# Altium schematic symbol library ULN200x.SchLib: 1 symbol
Pins are listed as number, name and electrical type; pins without a type are passive.

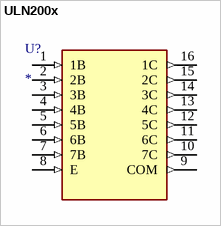
[diagram p0: symbol ULN200x]

## ULN200x
designator U?
50-V, 7-ch darlington transistor array, -20C to 70C; MP: ULN2003AD; MF: Texas Instruments; Price: None; Availability: In Stock; Package: SOIC-16 Texas Instruments; Value: *; SnapEDA_Link: https://www.snapeda.com/parts/ULN2003AD/Texas+Instruments/view-part/?ref=snap; Purchase-URL: https://pricing.snapeda.com/search/part/ULN2003AD/?ref=eda; Check_prices: https://www.snapeda.com/parts/ULN2003AD/Texas+Instruments/view-part/?ref=eda
footprint SOIC127P600X175-16N
pins: 1 1B (in), 2 2B (in), 3 3B (in), 4 4B (in), 5 5B (in), 6 6B (in), 7 7B (in), 8 E (in), 9 COM (out), 10 7C (out), 11 6C (out), 12 5C (out), 13 4C (out), 14 3C (out), 15 2C (out), 16 1C (out)